# EAGLE library part TBA810AS (library vishay)
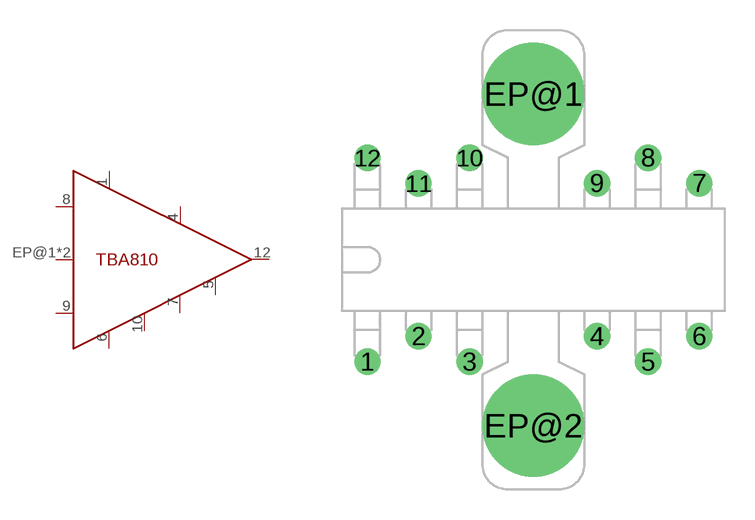
[diagram p0: symbol with the pads of TBA810AS; footprint TBA810AS]

Designator prefix DA

## TBA810AS  [TBA810AS]
1  1  pas
4  4  pas
5  5  pas
6  6  pas
7  7  pas
8  8  pas
9  9  pas
10  10  pas
12  12  pas
EP@1  EP  pas
EP@2  EP  pas

## Footprint TBA810AS (pad centres in mm)
drill 0.8: 1 -8.255,-5.08; 2 -5.715,-3.81; 3 -3.175,-5.08; 4 3.175,-3.81; 5 5.715,-5.08; 6 8.255,-3.81; 7 8.255,3.81; 8 5.715,5.08; 9 3.175,3.81; 10 -3.175,5.08; 11 -5.715,3.81; 12 -8.255,5.08
drill 2.54 pad 5.08: EP@1 0,8.255; EP@2 0,-8.255